# EAGLE library part 61206021721 (library Wire-to-Board (rev18a))
WR-BHD 2.54mm Male Angled Box Header, 60 Pins=>Code : Con_WTB_BHD_2.54_Male_THT_WS_61206021721 <http://katalog.we-online.de/media/thumbs2/eican/thb_Con_WTB_BHD_2.54_Male_THT_WS_6120xx21721_pf2.jpg> Details see: http://katalog.we-online.de/en/em/612_0xx_217_21 Created 2014-06-05, Karrer Zheng 2014 (C) Würth Elektronik
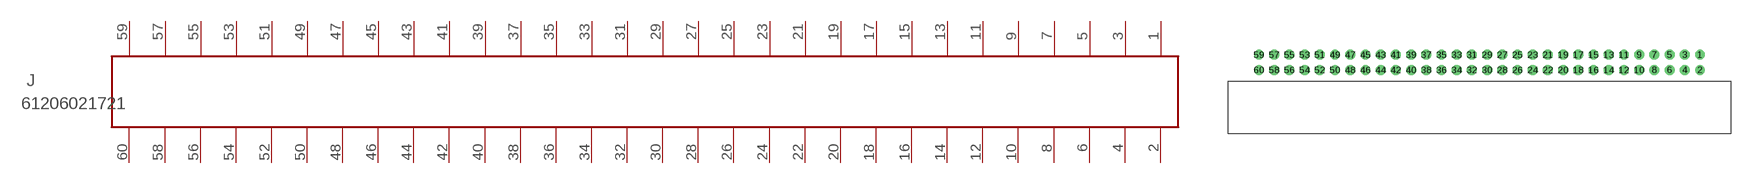
[diagram p204: symbol with the pads of 61206021721; footprint 61206021721]

Designator prefix J

## 61206021721  [61206021721]
1  60  pas
2  59  pas
3  58  pas
4  57  pas
5  56  pas
6  55  pas
7  54  pas
8  53  pas
9  52  pas
10  51  pas
11  50  pas
12  49  pas
13  48  pas
14  47  pas
15  46  pas
16  45  pas
17  44  pas
18  43  pas
19  42  pas
20  41  pas
21  40  pas
22  39  pas
23  38  pas
24  37  pas
25  36  pas
26  35  pas
27  34  pas
28  33  pas
29  32  pas
30  31  pas
31  30  pas
32  29  pas
33  28  pas
34  27  pas
35  26  pas
36  25  pas
37  24  pas
38  23  pas
39  22  pas
40  21  pas
41  20  pas
42  19  pas
43  18  pas
44  17  pas
45  16  pas
46  15  pas
47  14  pas
48  13  pas
49  12  pas
50  11  pas
51  10  pas
52  9  pas
53  8  pas
54  7  pas
55  6  pas
56  5  pas
57  4  pas
58  3  pas
59  2  pas
60  1  pas

## Footprint 61206021721 (pad centres in mm)
WR-BHD 2.54mm Male Angled Box Header, 60 Pins
drill 1.1: 1 36.83,1.27; 2 36.83,-1.27; 3 34.29,1.27; 4 34.29,-1.27; 5 31.75,1.27; 6 31.75,-1.27; 7 29.21,1.27; 8 29.21,-1.27; 9 26.67,1.27; 10 26.67,-1.27; 11 24.13,1.27; 12 24.13,-1.27; 13 21.59,1.27; 14 21.59,-1.27; 15 19.05,1.27; 16 19.05,-1.27; 17 16.51,1.27; 18 16.51,-1.27; 19 13.97,1.27; 20 13.97,-1.27; 21 11.43,1.27; 22 11.43,-1.27; 23 8.89,1.27; 24 8.89,-1.27; 25 6.35,1.27; 26 6.35,-1.27; 27 3.81,1.27; 28 3.81,-1.27; 29 1.27,1.27; 30 1.27,-1.27; 31 -1.27,1.27; 32 -1.27,-1.27; 33 -3.81,1.27; 34 -3.81,-1.27; 35 -6.35,1.27; 36 -6.35,-1.27; 37 -8.89,1.27; 38 -8.89,-1.27; 39 -11.43,1.27; 40 -11.43,-1.27; 41 -13.97,1.27; 42 -13.97,-1.27; 43 -16.51,1.27; 44 -16.51,-1.27; 45 -19.05,1.27; 46 -19.05,-1.27; 47 -21.59,1.27; 48 -21.59,-1.27; 49 -24.13,1.27; 50 -24.13,-1.27; 51 -26.67,1.27; 52 -26.67,-1.27; 53 -29.21,1.27; 54 -29.21,-1.27; 55 -31.75,1.27; 56 -31.75,-1.27; 57 -34.29,1.27; 58 -34.29,-1.27; 59 -36.83,1.27; 60 -36.83,-1.27